# Altium footprint library Misc.PcbLib: 4 footprints
Each footprint in its own frame and in the unit in brackets; x right, y up, seen from the top. Pads: shape width x height; smd on the part's side, far side on the other; paste and mask are expansions set on the pad; w line width, h text height; cw(c..) or ccw(c..) is an arc to the next point about the centre after c.
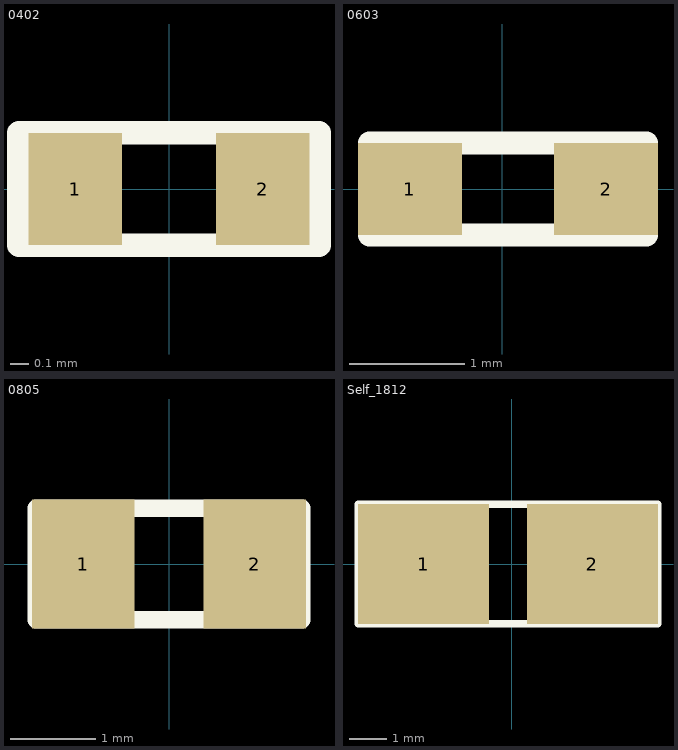
[diagram p0: the footprints below, top view; thin cyan lines are the x and y axes]

## 0402 [mm]
pads (2):
  rect 0.5x0.6 smd: 1(-0.5,0) 2(0.5,0)
Top Overlay:
  lines w0.127: -0.8,-0.3 0.8,-0.3 0.8,0.3 -0.8,0.3 -0.8,-0.3

## 0603 [mm]
pads (2):
  rect 0.9x0.8 smd: 1(-0.8,0) 2(0.9,0)
Top Overlay:
  lines w0.2: -1.15,-0.4 -1.15,0.4 1.25,0.4 1.25,-0.4 -1.15,-0.4

## 0805 [mm]
pads (2):
  rect 1.2x1.5 smd: 1(-1,0) 2(1,0)
Top Overlay:
  lines w0.2: -1.55,-0.65 -1.55,0.65 0,0.65 1.55,0.65 1.55,0 1.55,-0.65 -1.55,-0.65

## Self_1812 [mm]
pads (2):
  rect 3.5x3.2 smd: 1(-2.35,0) 2(2.15,0)
Top Overlay:
  lines w0.2: -4.1,-1.6 -4.1,1.6 3.9,1.6 3.9,-1.6 -4.1,-1.6